# Altium schematic symbol library RTAN1206BKE33R0.SchLib: 1 symbol
Pins are listed as number, name and electrical type; pins without a type are passive.

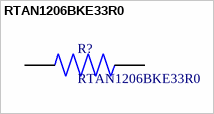
[diagram p0: symbol RTAN1206BKE33R0]

## RTAN1206BKE33R0
designator R?
MF: {'manufacturer': u'Stackpole Electronics Inc'}; Value: *; Package: None; MP: RTAN1206BKE33R0; Price: None; Availability: Unavailable
footprint RESC3116X75N
pins: 1, 1, 2, 2